# Altium schematic symbol library SCH - DRIVER - LED - TI LM3406MH.SchLib: 1 symbol
Pins are listed as number, name and electrical type; pins without a type are passive.

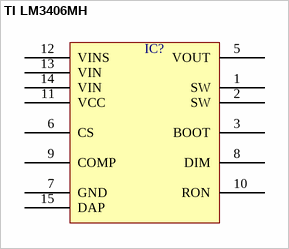
[diagram p0: symbol TI LM3406MH]

## TI LM3406MH
designator IC?  (value not drawn)
pins: 1 SW, 2 SW, 3 BOOT, 5 VOUT, 6 CS, 7 GND, 8 DIM, 9 COMP, 10 RON, 11 VCC, 12 VINS, 13 VIN, 14 VIN, 15 DAP